# EAGLE library part LM293 (library IC)
Dual Differential Comparator
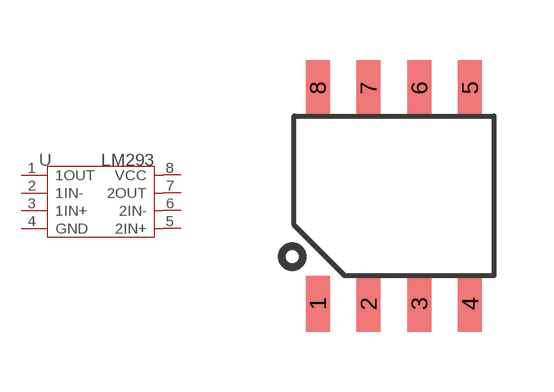
[diagram p63: symbol with the pads of SOIC8-6.0; footprint SOIC8-6.0]

Designator prefix U

## LM293D  [SOIC8-6.0]
1  1OUT  out
2  1IN-  in
3  1IN+  in
4  GND  sup
5  2IN+  in
6  2IN-  in
7  2OUT  out
8  VCC  sup

## Footprint SOIC8-6.0 (pad centres in mm)
smd 0.6 x 1.4: 1 -1.905,-2.7; 2 -0.635,-2.7; 3 0.635,-2.7; 4 1.905,-2.7; 5 1.905,2.7; 6 0.635,2.7; 7 -0.635,2.7; 8 -1.905,2.7